# EAGLE library part MYRBP500080B21RE (library MYRBP500080B21RE)
Non-Isolated DC/DC Converters Source: Datasheet <https://www.murata.com/products/productdata/8809985572894/MYRBP-B-W.pdf?1604930424000>
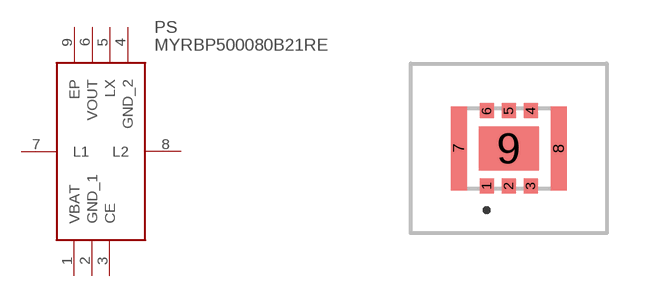
[diagram p0: symbol with the pads of MYRBP500080B21RE; footprint MYRBP500080B21RE]

Designator prefix PS

## MYRBP500080B21RE (Description: Non-Isolated DC/DC Converters; Height: 1.04mm; Manufacturer_Name: Murata Electronics; Manufacturer_Part_Number: MYRBP500080B21RE; Mouser_Part_Number: 81-MYRBP500080B21RE; Mouser_Price-Stock: https://www.mouser.co.uk/ProductDetail/Murata-Electronics/MYRBP500080B21RE?qs=hd1VzrDQEGi2HKFlO8%252BP9Q%3D%3D)  [MYRBP500080B21RE]
1  VBAT
2  GND_1
3  CE
4  GND_2
5  LX
6  VOUT
7  L1
8  L2
9  EP

## Footprint MYRBP500080B21RE (pad centres in mm)
MYRBP500080B21RE-2
smd 0.35 x 0.375: 1 -0.55,-0.938; 2 0,-0.938; 3 0.55,-0.938; 4 0.55,0.938; 5 0,0.938; 6 -0.55,0.938
smd 0.4 x 2.1: 7 -1.25,0; 8 1.25,0
smd 1.5 x 1.1: 9 0,0